# Altium schematic symbol library SynthyTwo.Components.SchLib: 7 symbols
Pins are listed as number, name and electrical type; pins without a type are passive.

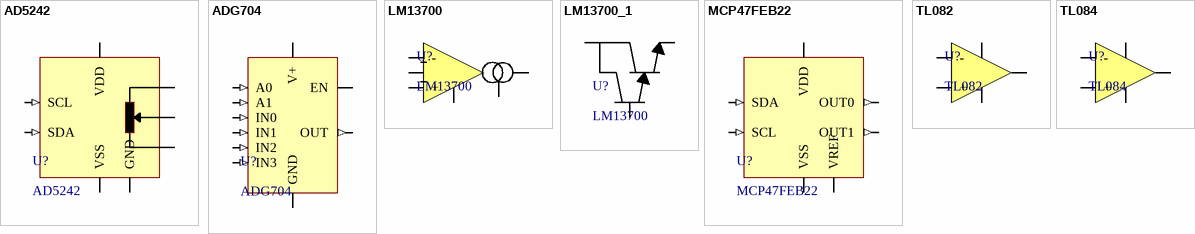
[diagram p0: symbols AD5242 to TL084]

## AD5242
designator U?
pins: 1 A, 2 W, 3 B, 4 VDD, 6 SCL (in), 7 SDA (in), 10 GND, 11 VSS

## ADG704
designator U?
pins: A0 (in), A1 (in), EN, GND (power), IN0 (in), IN1 (in), IN2 (in), IN3 (in), OUT (out), V+ (power)

## LM13700
designator U?
pins: 1 BIAS, 2, 3 +, 4 -, 5 OUT, 6 VCC-

## LM13700_1
designator U?, comment LM13700
pins: 7 BIN, 8 BOUT, 11 V+

## MCP47FEB22
designator U?
pins: 1 VDD, 2 VREF, 3 OUT0 (out), 4 OUT1 (out), 5 VSS, 7 SCL (in), 8 SDA (in)

## TL082
designator U?
pins: 1 OUT, 2 -, 3 +, 4 VCC-, 8 VCC+

## TL084
designator U?
pins: 1 OUT, 2 -, 3 +, 4 VCC+, 11 VCC-